# Altium footprint library DRV8825.PcbLib: 3 footprints
Each footprint in its own frame and in the unit in brackets; x right, y up, seen from the top. Pads: shape width x height; smd on the part's side, far side on the other; paste and mask are expansions set on the pad; w line width, h text height; cw(c..) or ccw(c..) is an arc to the next point about the centre after c.
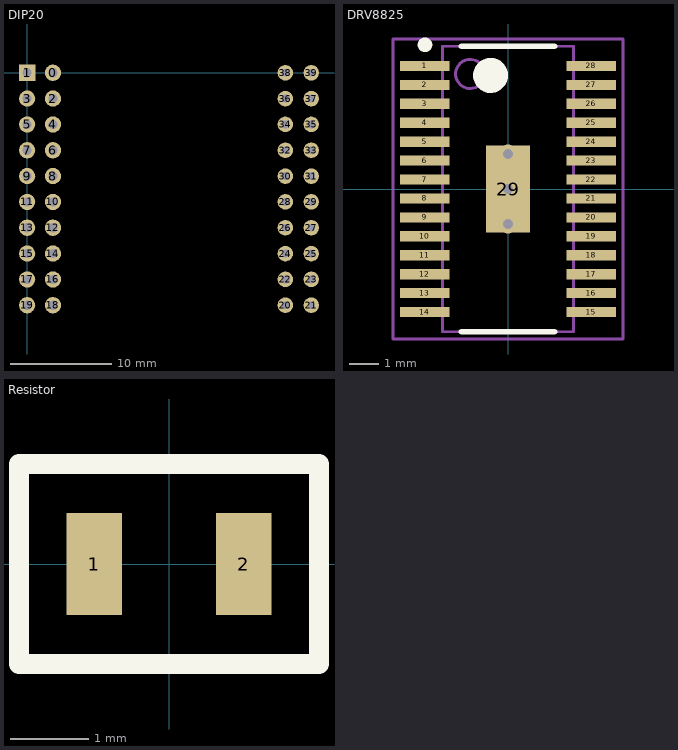
[diagram p0: the footprints below, top view; thin cyan lines are the x and y axes]

## DIP20 [mm]
pads (40):
  round 1.6 hole 0.9: 0(2.54,0) 2(2.54,-2.54) 3(0,-2.54) 4(2.54,-5.08) 5(0,-5.08) 6(2.54,-7.62) 7(0,-7.62) 8(2.54,-10.16) 9(0,-10.16) 10(2.54,-12.7) 11(0,-12.7) 12(2.54,-15.24) 13(0,-15.24) 14(2.54,-17.78) 15(0,-17.78) 16(2.54,-20.32) 17(0,-20.32) 18(2.54,-22.86) 19(0,-22.86)
  rect 1.6x1.6 hole 0.9: 1(0,0)
  round 1.524 hole 0.762: 20(25.4,-22.86) 21(27.94,-22.86) 22(25.4,-20.32) 23(27.94,-20.32) 24(25.4,-17.78) 25(27.94,-17.78) 26(25.4,-15.24) 27(27.94,-15.24) 28(25.4,-12.7) 29(27.94,-12.7) 30(25.4,-10.16) 31(27.94,-10.16) 32(25.4,-7.62) 33(27.94,-7.62) 34(25.4,-5.08) 35(27.94,-5.08) 36(25.4,-2.54) 37(27.94,-2.54) 38(25.4,0) 39(27.94,0)

## DRV8825 [mm] "TI Stepper Motor Driver, replacement for the Pololu A4988 (mainly) 3D-printer stepper driver modules."
height 1.2
pads (29):
  rect 1.7x0.35 smd: 1(-2.85,4.225) 2(-2.85,3.575) 3(-2.85,2.925) 4(-2.85,2.275) 5(-2.85,1.625) 6(-2.85,0.975) 7(-2.85,0.325) 8(-2.85,-0.325) 9(-2.85,-0.975) 10(-2.85,-1.625) 11(-2.85,-2.275) 12(-2.85,-2.925) 13(-2.85,-3.575) 14(-2.85,-4.225) 15(2.85,-4.225) 16(2.85,-3.575) 17(2.85,-2.925) 18(2.85,-2.275) 19(2.85,-1.625) 20(2.85,-0.975) 21(2.85,-0.325) 22(2.85,0.325) 23(2.85,0.975) 24(2.85,1.625) 25(2.85,2.275) 26(2.85,2.925) 27(2.85,3.575) 28(2.85,4.225)
  rect 1.5x3 smd: 29(0,0)
via 0,1.2 diameter 0.66 hole 0.33
via 0,0 diameter 0.66 hole 0.33
via 0,-1.2 diameter 0.66 hole 0.33
Top Overlay:
  circle w0.25: c-2.85,4.95 r0.125
  circle w0.6: c-0.6,3.9 r0.3
  lines w0.2: -1.6,-4.9 1.6,-4.9 ; -1.6,4.9 1.6,4.9
Mechanical 13:
  circle w0.1: c-1.3,3.95 r0.5
  lines w0.1: -2.25,-4.9 -2.25,4.9 2.25,4.9 2.25,-4.9 -2.25,-4.9
Mechanical 15:
  lines w0.1: -0.5,0 0.5,0 ; 0,-0.5 0,0.5 ; -3.95,-5.15 -3.95,5.15 3.95,5.15 3.95,-5.15 -3.95,-5.15
3D body: height 1.2, standoff 0.25, extent -2.25,-4.9 2.25,4.9

## Resistor [mm]
pads (2):
  rect 0.7x1.3 smd: 1(-0.95,0) 2(0.95,0)
Top Overlay:
  lines w0.254: -1.905,-1.27 1.905,-1.27 1.905,1.27 -1.905,1.27 -1.905,-1.27